# Altium footprint library Diverse.PcbLib: 5 footprints
Each footprint in its own frame and in the unit in brackets; x right, y up, seen from the top. Pads: shape width x height; smd on the part's side, far side on the other; paste and mask are expansions set on the pad; w line width, h text height; cw(c..) or ccw(c..) is an arc to the next point about the centre after c.
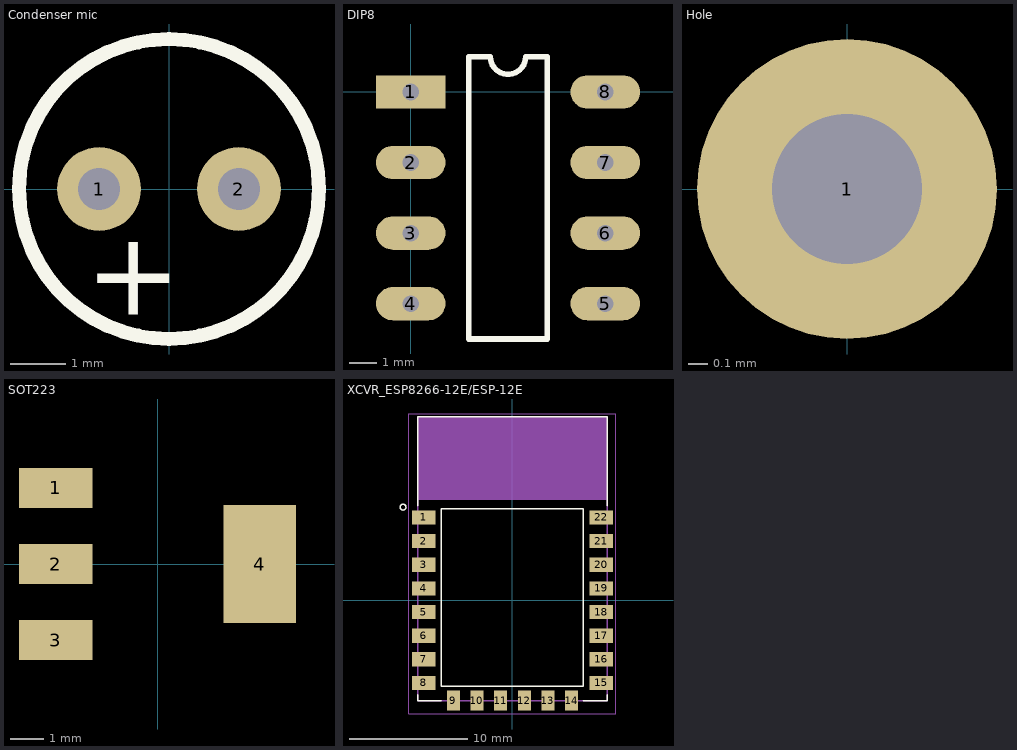
[diagram p0: the footprints below, top view; thin cyan lines are the x and y axes]

## Condenser mic [mil]
pads (2):
  round 60 hole 30: 1(-50,0) 2(50,0)
Top Overlay:
  circle w10: c0,0 r107.35
  text "+" at -60,-90 h60

## DIP8 [mm]
pads (8):
  rect 2.5x1.2 hole 0.6: 1(0,0)
  oval 2.5x1.2 hole 0.6: 2(0,-2.54) 3(0,-5.08) 4(0,-7.62) 5(7,-7.62) 6(7,-5.08) 7(7,-2.54) 8(7,0)
Top Overlay:
  lines w0.2: 2.085,-8.89 2.085,1.27 2.865,1.27 ccw(c3.5,1.27) 4.135,1.27 4.915,1.27 4.915,-8.89 2.085,-8.89

## Hole [mil]
pads (1):
  round 60 hole 30: 1(0,0)

## SOT223 [mil]
pads (4):
  rect 88x48 smd: 1(-122,91) 2(-122,0) 3(-122,-91)
  rect 86.61x141.73 smd: 4(122.01,0)

## XCVR_ESP8266-12E/ESP-12E [mm]
pads (22):
  rect 2x1.2 smd: 1(-7.5,7) 2(-7.5,5) 3(-7.5,3) 4(-7.5,1) 5(-7.5,-1) 6(-7.5,-3) 7(-7.5,-5) 8(-7.5,-7) 15(7.5,-7) 16(7.5,-5) 17(7.5,-3) 18(7.5,-1) 19(7.5,1) 20(7.5,3) 21(7.5,5) 22(7.5,7)
  rect 1.1x1.7 smd: 9(-5,-8.5) 10(-3,-8.5) 11(-1,-8.5) 12(1,-8.5) 13(3,-8.5) 14(5,-8.5)
Top Overlay:
  circle w0.127: c-9.25,7.875 r0.25
  lines w0.127: -8,-8 -8,-8.5 -6,-8.5 ; -8,8 -8,15.5 8,15.5 8,8 ; 6,-8.5 8,-8.5 8,-8 ; -6,-7.26 -6,7.74 6,7.74 6,-7.26 -6,-7.26
Mechanical 1:
  region: -8.006,15.5 8,15.5 8,8.507 -8.006,8.507
  region: -8.014,15.5 8,15.5 8,8.515 -8.014,8.515
  lines w0.05: -8.75,-9.625 -8.75,15.75 8.75,15.75 8.75,-9.625 -8.75,-9.625
  lines w0.127: -8,-8.5 -8,15.5 8,15.5 8,-8.5 -8,-8.5